# Altium schematic symbol library Miscellaneous.SchLib: 3 symbols
Pins are listed as number, name and electrical type; pins without a type are passive.

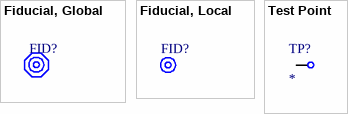
[diagram p0: symbols Fiducial, Global to Test Point]

## Fiducial, Global
designator FID?  (value not drawn)  (no BOM)
footprint Fiducial, Global (Global Fiducial Marker for Seeed Studio Fusion PCB)

## Fiducial, Local
designator FID?  (value not drawn)  (no BOM)
footprint Fiducial, Local (Local Fiducial Marker for Seeed Studio Fusion PCB)

## Test Point
designator TP?  (no BOM)
footprint Test Point
pins: 1